# EAGLE library part LTC2470 (library LTC2470)
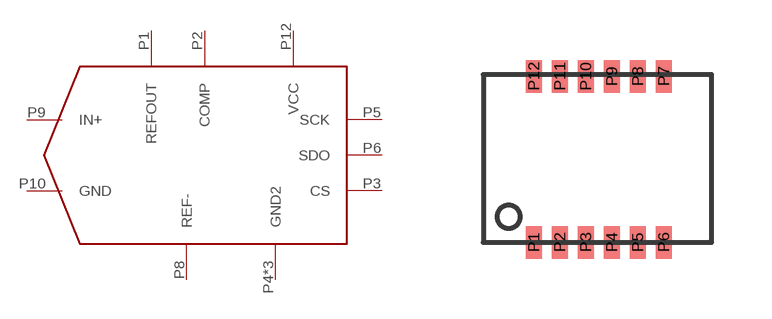
[diagram p0: symbol with the pads of MSOP12; footprint MSOP12]

Designator prefix -

## LTC2470  [MSOP12]
P1  REFOUT
P2  COMP
P3  CS
P4  GND2
P5  SCK
P6  SDO
P7  GND2
P8  REF-
P9  IN+
P10  GND
P11  GND2
P12  VCC

## Footprint MSOP12 (pad centres in mm)
smd 0.406 x 0.813: P1 1.27,0; P2 1.92,0; P3 2.57,0; P4 3.22,0; P5 3.87,0; P6 4.52,0; P7 4.52,4.15; P8 3.87,4.15; P9 3.22,4.15; P10 2.57,4.15; P11 1.92,4.15; P12 1.27,4.15